# EAGLE library part FEMALE_CON (library crazyflie_lib)
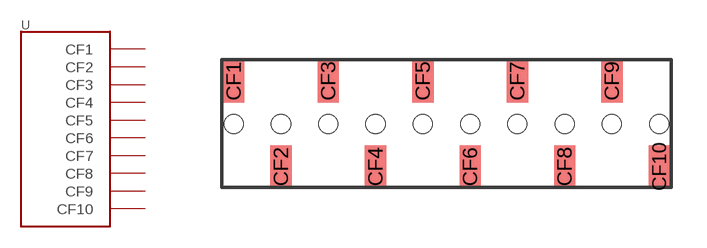
[diagram p0: symbol with the pads of FEMALE_HEADER_2; footprint FEMALE_HEADER_2]

Designator prefix -

## FEMALE_CON  [FEMALE_HEADER_2]
CF1  CF1
CF2  CF2
CF3  CF3
CF4  CF4
CF5  CF5
CF6  CF6
CF7  CF7
CF8  CF8
CF9  CF9
CF10  CF10

## Footprint FEMALE_HEADER_2 (pad centres in mm)
smd 0.9 x 1.8: CF1 -8.996,1.818; CF2 -6.996,-1.812; CF3 -4.996,1.818; CF4 -2.996,-1.812; CF5 -0.996,1.818; CF6 1.004,-1.812; CF7 3.004,1.818; CF8 5.004,-1.812; CF9 7.004,1.818; CF10 9.004,-1.812
hole 0.8 at 1,0
hole 0.8 at -1,0
hole 0.8 at -3,0
hole 0.8 at -5,0
hole 0.8 at -7,0
hole 0.8 at -9,0
hole 0.8 at 3,0
hole 0.8 at 5,0
hole 0.8 at 7,0
hole 0.8 at 9,0